# Altium footprint library SAMTEC_ESQ-107-23-L-D.PcbLib: 1 footprints
Each footprint in its own frame and in the unit in brackets; x right, y up, seen from the top. Pads: shape width x height; smd on the part's side, far side on the other; paste and mask are expansions set on the pad; w line width, h text height; cw(c..) or ccw(c..) is an arc to the next point about the centre after c.
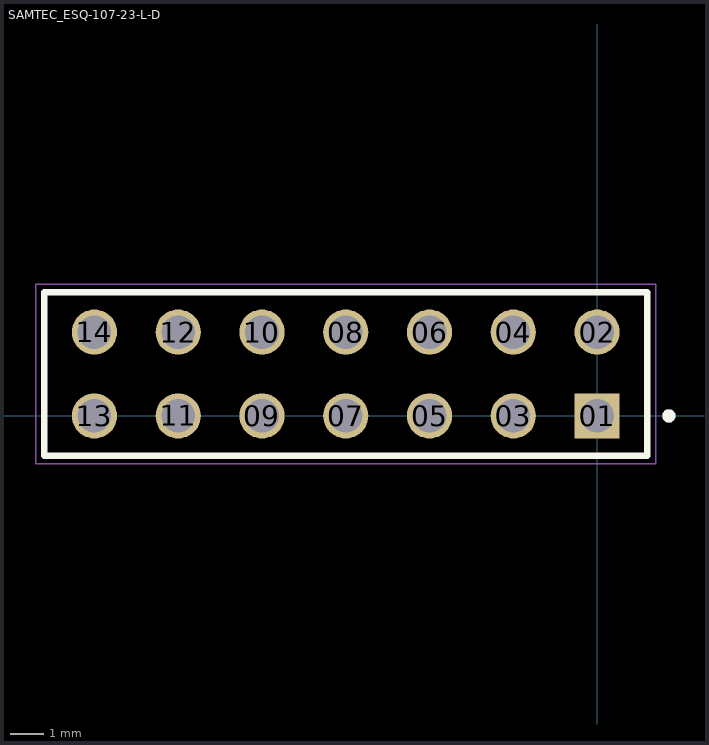
[diagram p0: the footprint, top view; thin cyan lines are the x and y axes]

## SAMTEC_ESQ-107-23-L-D [mm]
pads (14):
  rect 1.37x1.37 hole 1.02: 01(0,0)
  round 1.37 hole 1.02: 02(0,2.54) 03(-2.54,0) 04(-2.54,2.54) 05(-5.08,0) 06(-5.08,2.54) 07(-7.62,0) 08(-7.62,2.54) 09(-10.16,0) 10(-10.16,2.54) 11(-12.7,0) 12(-12.7,2.54) 13(-15.24,0) 14(-15.24,2.54)
Top Overlay:
  circle w0.2: c2.175,0 r0.1
  lines w0.2: -16.765,-1.205 1.525,-1.205 1.525,3.745 -16.765,3.745 -16.765,-1.205
Mechanical 13:
  circle w0.2: c2.175,0 r0.1
  lines w0.1: -16.765,-1.205 -16.765,3.745 ; -16.765,-1.205 1.525,-1.205 ; -16.765,-1.205 -16.765,3.745 ; -16.765,3.745 1.525,3.745 ; -16.765,3.745 1.525,3.745 ; 1.525,-1.205 1.525,3.745 ; 1.525,-1.205 1.525,3.745
Mechanical 15:
  lines w0.05: -17.015,-1.455 1.775,-1.455 1.775,3.995 -17.015,3.995 -17.015,-1.455
3D body "ESQ-107-23-L-D.stp": height 13.59, standoff -4.83, extent -16.637,-1.524 1.651,3.556